# Altium footprint library ADP7118ARDZ-3.3.PcbLib: 1 footprints
Each footprint in its own frame and in the unit in brackets; x right, y up, seen from the top. Pads: shape width x height; smd on the part's side, far side on the other; paste and mask are expansions set on the pad; w line width, h text height; cw(c..) or ccw(c..) is an arc to the next point about the centre after c.
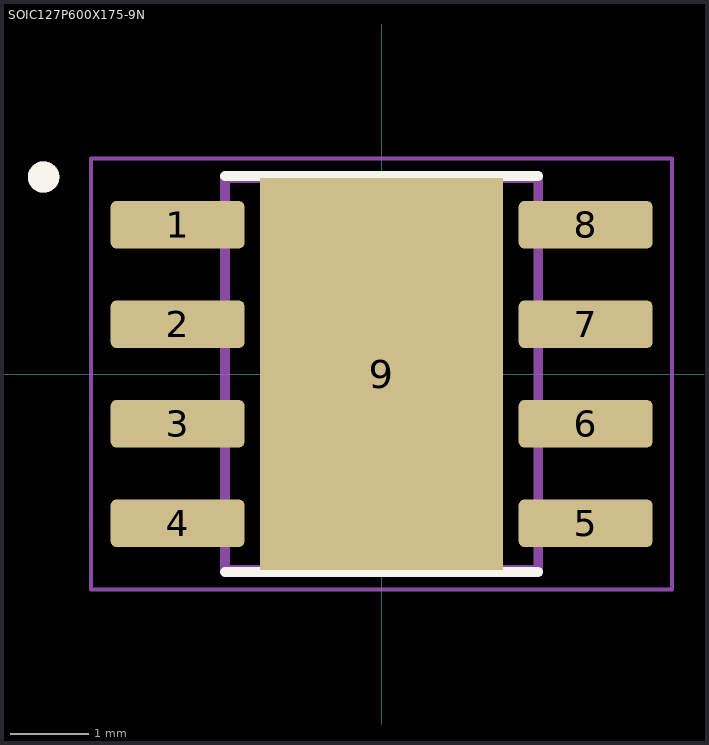
[diagram p0: the footprint, top view; thin cyan lines are the x and y axes]

## SOIC127P600X175-9N [mm]
pads (9):
  rrect25% 1.71x0.61 smd: 1(-2.605,1.905) 2(-2.605,0.635) 3(-2.605,-0.635) 4(-2.605,-1.905) 5(2.605,-1.905) 6(2.605,-0.635) 7(2.605,0.635) 8(2.605,1.905)
  rect 3.1x5 smd paste-3: 9(0,0)
Top Overlay:
  circle w0.2: c-4.315,2.515 r0.1
  lines w0.127: -2,-2.53 2,-2.53 ; -2,2.53 2,2.53
Mechanical 13:
  circle w0.2: c-4.315,2.515 r0.1
  lines w0.127: -2,-2.5 -2,2.5 2,2.5 2,-2.5 -2,-2.5
Mechanical 15:
  lines w0.05: -3.71,-2.75 -3.71,2.75 3.71,2.75 3.71,-2.75 -3.71,-2.75
3D body "step_temp.STEP": height 1.75, standoff 0, extent -2.45,-3 2.45,3